# Altium schematic symbol library header_6_plg.SchLib: 1 symbol
Pins are listed as number, name and electrical type; pins without a type are passive.

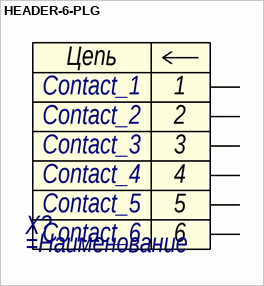
[diagram p0: symbol HEADER-6-PLG]

## HEADER-6-PLG
designator X?
=Описание; Contact_1: Contact_1; Contact_2: Contact_2; Contact_3: Contact_3; Contact_4: Contact_4; Contact_5: Contact_5; Contact_6: Contact_6
pins: 1, 2, 3, 4, 5, 6
text: Цепь